# EAGLE library part LS012B7DD01 (library LS012B7DD01)
Verschiedene Varianten der Displaymontage. Display-Daten: MPN: LS012B7DD01 MFG: Sharp Microelectronics
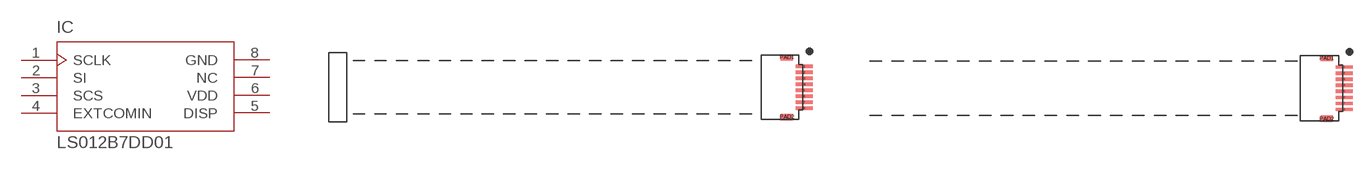
[diagram p0: symbol with the pads of PCB-MILLED; footprints PCB-MILLED, PCB-EDGE]

Designator prefix IC

## LS012B7DD01BOT (MFG: Amphenol FCI; MPN: 59453-081110EDHLF)  [PCB-MILLED]
1  SCLK  in
2  SI  in
3  SCS  in
4  EXTCOMIN  in
5  DISP  in
6  VDD  pwr
7  NC  nc
8  GND  pwr

## LS012B7DD01PCB-EDGE (MFG: Amphenol FCI; MPN: 59453-081110EDHLF)  [PCB-EDGE]
Pads as for PCB-MILLED

## LS012B7DD01CONN-ONLY (MFG: Amphenol FCI; MPN: 59453-081110EDHLF)  [CONNECTOR]
Pads as for PCB-MILLED

## LS012B7DD01SINGLE-SIDED (MFG: Amphenol FCI; MPN: 59453-081110EDHLF)  [SINGLE-SIDED]
Pads as for PCB-MILLED

## Footprint PCB-MILLED (pad centres in mm)
Der Connector sitzt auf der Top-Seite, das Display auf der Rückseite der Platine. Die Verbindung wird über einen Frässchlitz hergestellt.
smd 1.4 x 0.3: 1 32.45,5.3; 2 32.45,4.8; 3 32.45,4.3; 4 32.45,3.8; 5 32.45,3.3; 6 32.45,2.8; 7 32.45,2.3; 8 32.45,1.8
smd 1 x 0.52: PAD1 31,6.05; PAD2 31,1.05

## Footprint PCB-EDGE (pad centres in mm)
Connector auf einer Seite, Flachbandleitung über Ecke des PCB auf der entsprechend anderen Seite
smd 1.4 x 0.27: 1 32.45,5.3; 2 32.45,4.8; 3 32.45,4.3; 4 32.45,3.8; 5 32.45,3.3; 6 32.45,2.8; 7 32.45,2.3; 8 32.45,1.8
smd 1 x 0.52: PAD1 31,6.05; PAD2 31,1.05

## Footprint CONNECTOR (pad centres in mm)
Nur der Flex-Connector, keine Displayposition
smd 1.4 x 0.27: 1 1.653,1.808; 2 1.653,1.308; 3 1.653,0.807; 4 1.653,0.307; 5 1.653,-0.193; 6 1.653,-0.693; 7 1.653,-1.192; 8 1.653,-1.692
smd 1 x 0.52: PAD1 0.203,2.558; PAD2 0.203,-2.442

## Footprint SINGLE-SIDED (pad centres in mm)
Display und Connector auf der gleichen Seite
smd 1.4 x 0.3: 1 45.097,5.242; 2 45.097,4.742; 3 45.097,4.242; 4 45.097,3.743; 5 45.097,3.243; 6 45.097,2.743; 7 45.097,2.243; 8 45.097,1.742
smd 1 x 0.52: PAD1 43.648,5.992; PAD2 43.648,0.993